# Altium schematic symbol library TPS3780.SchLib: 1 symbol
Pins are listed as number, name and electrical type; pins without a type are passive.

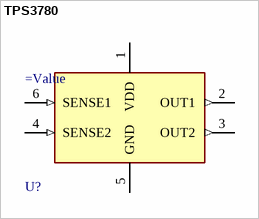
[diagram p0: symbol TPS3780]

## TPS3780
designator U?
pins: 1 VDD (power), 2 OUT1 (out), 3 OUT2 (out), 4 SENSE2 (in), 5 GND (power), 6 SENSE1 (in)